# Altium schematic symbol library Module.SchLib: 1 symbol
Pins are listed as number, name and electrical type; pins without a type are passive.

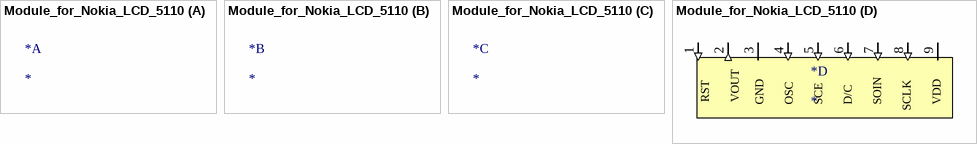
[diagram p0: symbol Module_for_Nokia_LCD_5110]

## Module_for_Nokia_LCD_5110
designator *
footprint PCBComponent_1
part D pins: 1 (in), 2 (out), 3 (power), 4 (in), 5 (in), 6 (in), 7 (in), 8 (in), 9 (power)
part D text: RST; VOUT; GND; OSC; SCE; D/C; SOIN; VDD; SCLK